# Altium schematic symbol library WCAP-FTBP.SchLib: 30 symbols
Pins are listed as number, name and electrical type; pins without a type are passive.

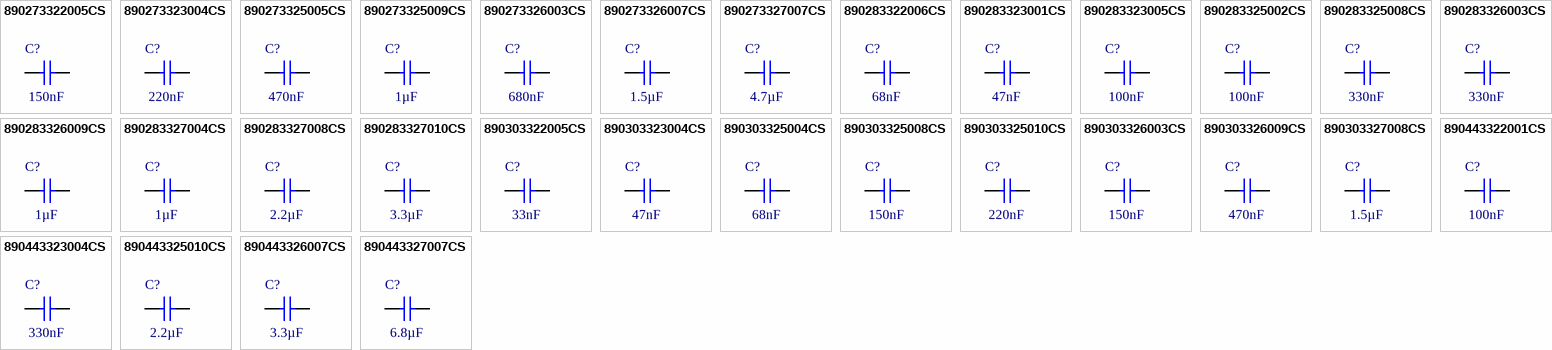
[diagram p0: symbols 890273322005CS to 890443327007CS]

## 890273322005CS
designator C?, comment 150nF
WCAP-FTBP Film Capacitor, L10.5 x W5 x H11mm. 150nF, 250V; Manufacturer Part Number: 890273322005CS; Manufacturer: Wurth Elektronik; Dissipation Factor @1kHz: 0.1%; Insulation Resistance: 30GΩ; Pitch: 7.5mm; Rate of Voltage Rise: 340V/µs; Category: Film Capacitors; Match Code: WCAP-FTBP; ComponentLink1Description: Website Link; ComponentLink1URL: https://www.we-online.com/redexpert/article/890273322005CS?ad; ComponentLink2Description: Datasheet Link; ComponentLink2URL: https://www.we-online.com/redexpert/spec/890273322005CS?ad; Mount: Through Hole; Min Operating Temperature: -40°C; Max Operating Temperature: 105°C; Packaging: Carton; Length: 10.5mm; Width: 5mm; Height: 11mm; Capacitance: 150nF; Rated Voltage (DC): 250V
footprint WCAP-FTBP_L10.5W5H11
simulation model 890273322005CS_150nF
pins: 1, 2

## 890273323004CS
designator C?, comment 220nF
WCAP-FTBP Film Capacitor, L13 x W6 x H12mm. 220nF, 250V; Manufacturer Part Number: 890273323004CS; Manufacturer: Wurth Elektronik; Dissipation Factor @1kHz: 0.1%; Insulation Resistance: 30GΩ; Pitch: 10mm; Rate of Voltage Rise: 250V/µs; Category: Film Capacitors; Match Code: WCAP-FTBP; ComponentLink1Description: Website Link; ComponentLink1URL: https://www.we-online.com/redexpert/article/890273323004CS?ad; ComponentLink2Description: Datasheet Link; ComponentLink2URL: https://www.we-online.com/redexpert/spec/890273323004CS?ad; Mount: Through Hole; Min Operating Temperature: -40°C; Max Operating Temperature: 105°C; Packaging: Carton; Length: 13mm; Width: 6mm; Height: 12mm; Capacitance: 220nF; Rated Voltage (DC): 250V
footprint WCAP-FTBP_L13W6H12
simulation model 890273323004CS_220nF
pins: 1, 2

## 890273325005CS
designator C?, comment 470nF
WCAP-FTBP Film Capacitor, L18 x W5 x H11mm. 470nF, 250V; Manufacturer Part Number: 890273325005CS; Manufacturer: Wurth Elektronik; Dissipation Factor @1kHz: 0.1%; Insulation Resistance: 21.28GΩ; Pitch: 15mm; Rate of Voltage Rise: 59V/µs; Category: Film Capacitors; Match Code: WCAP-FTBP; ComponentLink1Description: Website Link; ComponentLink1URL: https://www.we-online.com/redexpert/article/890273325005CS?ad; ComponentLink2Description: Datasheet Link; ComponentLink2URL: https://www.we-online.com/redexpert/spec/890273325005CS?ad; Mount: Through Hole; Min Operating Temperature: -40°C; Max Operating Temperature: 105°C; Packaging: Carton; Length: 18mm; Width: 5mm; Height: 11mm; Capacitance: 470nF; Rated Voltage (DC): 250V
footprint WCAP-FTBP_L18W5H11
simulation model 890273325005CS_470nF
pins: 1, 2

## 890273325009CS
designator C?, comment 1µF
WCAP-FTBP Film Capacitor, L18 x W7 x H13mm. 1µF, 250V; Manufacturer Part Number: 890273325009CS; Manufacturer: Wurth Elektronik; Dissipation Factor @1kHz: 0.1%; Insulation Resistance: 10GΩ; Pitch: 15mm; Rate of Voltage Rise: 85V/µs; Category: Film Capacitors; Match Code: WCAP-FTBP; ComponentLink1Description: Website Link; ComponentLink1URL: https://www.we-online.com/redexpert/article/890273325009CS?ad; ComponentLink2Description: Datasheet Link; ComponentLink2URL: https://www.we-online.com/redexpert/spec/890273325009CS?ad; Mount: Through Hole; Min Operating Temperature: -40°C; Max Operating Temperature: 105°C; Packaging: Carton; Length: 18mm; Width: 7mm; Height: 13mm; Capacitance: 1µF; Rated Voltage (DC): 250V
footprint WCAP-FTBP_L18W7H13
simulation model 890273325009CS_1uF
pins: 1, 2

## 890273326003CS
designator C?, comment 680nF
WCAP-FTBP Film Capacitor, L26 x W6 x H15mm. 680nF, 250V; Manufacturer Part Number: 890273326003CS; Manufacturer: Wurth Elektronik; Dissipation Factor @1kHz: 0.1%; Insulation Resistance: 14.71GΩ; Pitch: 22.5mm; Rate of Voltage Rise: 60V/µs; Category: Film Capacitors; Match Code: WCAP-FTBP; ComponentLink1Description: Website Link; ComponentLink1URL: https://www.we-online.com/redexpert/article/890273326003CS?ad; ComponentLink2Description: Datasheet Link; ComponentLink2URL: https://www.we-online.com/redexpert/spec/890273326003CS?ad; Mount: Through Hole; Min Operating Temperature: -40°C; Max Operating Temperature: 105°C; Packaging: Carton; Length: 26mm; Width: 6mm; Height: 15mm; Capacitance: 680nF; Rated Voltage (DC): 250V
footprint WCAP-FTBP_L26W6H15
simulation model 890273326003CS_680nF
pins: 1, 2

## 890273326007CS
designator C?, comment 1.5µF
WCAP-FTBP Film Capacitor, L26 x W7 x H16.5mm. 1.5µF, 250V; Manufacturer Part Number: 890273326007CS; Manufacturer: Wurth Elektronik; Dissipation Factor @1kHz: 0.1%; Insulation Resistance: 6.67GΩ; Pitch: 22.5mm; Rate of Voltage Rise: 61V/µs; Category: Film Capacitors; Match Code: WCAP-FTBP; ComponentLink1Description: Website Link; ComponentLink1URL: https://www.we-online.com/redexpert/article/890273326007CS?ad; ComponentLink2Description: Datasheet Link; ComponentLink2URL: https://www.we-online.com/redexpert/spec/890273326007CS?ad; Mount: Through Hole; Min Operating Temperature: -40°C; Max Operating Temperature: 105°C; Packaging: Carton; Length: 26mm; Width: 7mm; Height: 16.5mm; Capacitance: 1.5µF; Rated Voltage (DC): 250V
footprint WCAP-FTBP_L26W7H16.5
simulation model 890273326007CS_1.5uF
pins: 1, 2

## 890273327007CS
designator C?, comment 4.7µF
WCAP-FTBP Film Capacitor, L31 x W14 x H23.5mm. 4.7µF, 250V; Manufacturer Part Number: 890273327007CS; Manufacturer: Wurth Elektronik; Dissipation Factor @1kHz: 0.1%; Insulation Resistance: 2.13GΩ; Pitch: 27.5mm; Rate of Voltage Rise: 64V/µs; Category: Film Capacitors; Match Code: WCAP-FTBP; ComponentLink1Description: Website Link; ComponentLink1URL: https://www.we-online.com/redexpert/article/890273327007CS?ad; ComponentLink2Description: Datasheet Link; ComponentLink2URL: https://www.we-online.com/redexpert/spec/890273327007CS?ad; Mount: Through Hole; Min Operating Temperature: -40°C; Max Operating Temperature: 105°C; Packaging: Carton; Length: 31mm; Width: 14mm; Height: 23.5mm; Capacitance: 4.7µF; Rated Voltage (DC): 250V
footprint WCAP-FTBP_L31W14H23.5
simulation model 890273327007CS_4.7uF
pins: 1, 2

## 890283322006CS
designator C?, comment 68nF
WCAP-FTBP Film Capacitor, L10.5 x W6 x H12mm. 68nF, 400V; Manufacturer Part Number: 890283322006CS; Manufacturer: Wurth Elektronik; Dissipation Factor @1kHz: 0.1%; Insulation Resistance: 30GΩ; Pitch: 7.5mm; Rate of Voltage Rise: 610V/µs; Category: Film Capacitors; Match Code: WCAP-FTBP; ComponentLink1Description: Website Link; ComponentLink1URL: https://www.we-online.com/redexpert/article/890283322006CS?ad; ComponentLink2Description: Datasheet Link; ComponentLink2URL: https://www.we-online.com/redexpert/spec/890283322006CS?ad; Mount: Through Hole; Min Operating Temperature: -40°C; Max Operating Temperature: 105°C; Packaging: Carton; Length: 10.5mm; Width: 6mm; Height: 12mm; Capacitance: 68nF; Rated Voltage (DC): 400V
footprint WCAP-FTBP_L10.5W6H12
simulation model 890283322006CS_68nF
pins: 1, 2

## 890283323001CS
designator C?, comment 47nF
WCAP-FTBP Film Capacitor, L13 x W5 x H11mm. 47nF, 400V; Manufacturer Part Number: 890283323001CS; Manufacturer: Wurth Elektronik; Dissipation Factor @1kHz: 0.1%; Insulation Resistance: 30GΩ; Pitch: 10mm; Rate of Voltage Rise: 340V/µs; Category: Film Capacitors; Match Code: WCAP-FTBP; ComponentLink1Description: Website Link; ComponentLink1URL: https://www.we-online.com/redexpert/article/890283323001CS?ad; ComponentLink2Description: Datasheet Link; ComponentLink2URL: https://www.we-online.com/redexpert/spec/890283323001CS?ad; Mount: Through Hole; Min Operating Temperature: -40°C; Max Operating Temperature: 105°C; Packaging: Carton; Length: 13mm; Width: 5mm; Height: 11mm; Capacitance: 47nF; Rated Voltage (DC): 400V
footprint WCAP-FTBP_L13W5H11
simulation model 890283323001CS_47nF
pins: 1, 2

## 890283323005CS
designator C?, comment 100nF
WCAP-FTBP Film Capacitor, L13 x W5.5 x H11mm. 100nF, 400V; Manufacturer Part Number: 890283323005CS; Manufacturer: Wurth Elektronik; Dissipation Factor @1kHz: 0.1%; Insulation Resistance: 30GΩ; Pitch: 10mm; Rate of Voltage Rise: 300V/µs; Category: Film Capacitors; Match Code: WCAP-FTBP; ComponentLink1Description: Website Link; ComponentLink1URL: https://www.we-online.com/redexpert/article/890283323005CS?ad; ComponentLink2Description: Datasheet Link; ComponentLink2URL: https://www.we-online.com/redexpert/spec/890283323005CS?ad; Mount: Through Hole; Min Operating Temperature: -40°C; Max Operating Temperature: 105°C; Packaging: Carton; Length: 13mm; Width: 5.5mm; Height: 11mm; Capacitance: 100nF; Rated Voltage (DC): 400V
footprint WCAP-FTBP_L13W5.5H11
simulation model 890283323005CS_100nF
pins: 1, 2

## 890283325002CS
designator C?, comment 100nF
WCAP-FTBP Film Capacitor, L18 x W5 x H11mm. 100nF, 400V; Manufacturer Part Number: 890283325002CS; Manufacturer: Wurth Elektronik; Dissipation Factor @1kHz: 0.1%; Insulation Resistance: 30GΩ; Pitch: 15mm; Rate of Voltage Rise: 120V/µs; Category: Film Capacitors; Match Code: WCAP-FTBP; ComponentLink1Description: Website Link; ComponentLink1URL: https://www.we-online.com/redexpert/article/890283325002CS?ad; ComponentLink2Description: Datasheet Link; ComponentLink2URL: https://www.we-online.com/redexpert/spec/890283325002CS?ad; Mount: Through Hole; Min Operating Temperature: -40°C; Max Operating Temperature: 105°C; Packaging: Carton; Length: 18mm; Width: 5mm; Height: 11mm; Capacitance: 100nF; Rated Voltage (DC): 400V
footprint WCAP-FTBP_L18W5H11
simulation model 890283325002CS_100nF
pins: 1, 2

## 890283325008CS
designator C?, comment 330nF
WCAP-FTBP Film Capacitor, L18 x W7 x H13mm. 330nF, 400V; Manufacturer Part Number: 890283325008CS; Manufacturer: Wurth Elektronik; Dissipation Factor @1kHz: 0.1%; Insulation Resistance: 30GΩ; Pitch: 15mm; Rate of Voltage Rise: 140V/µs; Category: Film Capacitors; Match Code: WCAP-FTBP; ComponentLink1Description: Website Link; ComponentLink1URL: https://www.we-online.com/redexpert/article/890283325008CS?ad; ComponentLink2Description: Datasheet Link; ComponentLink2URL: https://www.we-online.com/redexpert/spec/890283325008CS?ad; Mount: Through Hole; Min Operating Temperature: -40°C; Max Operating Temperature: 105°C; Packaging: Carton; Length: 18mm; Width: 7mm; Height: 13mm; Capacitance: 330nF; Rated Voltage (DC): 400V
footprint WCAP-FTBP_L18W7H13
simulation model 890283325008CS_330nF
pins: 1, 2

## 890283326003CS
designator C?, comment 330nF
WCAP-FTBP Film Capacitor, L26 x W6 x H15mm. 330nF, 400V; Manufacturer Part Number: 890283326003CS; Manufacturer: Wurth Elektronik; Dissipation Factor @1kHz: 0.1%; Insulation Resistance: 30GΩ; Pitch: 22.5mm; Rate of Voltage Rise: 97V/µs; Category: Film Capacitors; Match Code: WCAP-FTBP; ComponentLink1Description: Website Link; ComponentLink1URL: https://www.we-online.com/redexpert/article/890283326003CS?ad; ComponentLink2Description: Datasheet Link; ComponentLink2URL: https://www.we-online.com/redexpert/spec/890283326003CS?ad; Mount: Through Hole; Min Operating Temperature: -40°C; Max Operating Temperature: 105°C; Packaging: Carton; Length: 26mm; Width: 6mm; Height: 15mm; Capacitance: 330nF; Rated Voltage (DC): 400V
footprint WCAP-FTBP_L26W6H15
simulation model 890283326003CS_330nF
pins: 1, 2

## 890283326009CS
designator C?, comment 1µF
WCAP-FTBP Film Capacitor, L26 x W8.5 x H17mm. 1µF, 400V; Manufacturer Part Number: 890283326009CS; Manufacturer: Wurth Elektronik; Dissipation Factor @1kHz: 0.1%; Insulation Resistance: 10GΩ; Pitch: 22.5mm; Rate of Voltage Rise: 95V/µs; Category: Film Capacitors; Match Code: WCAP-FTBP; ComponentLink1Description: Website Link; ComponentLink1URL: https://www.we-online.com/redexpert/article/890283326009CS?ad; ComponentLink2Description: Datasheet Link; ComponentLink2URL: https://www.we-online.com/redexpert/spec/890283326009CS?ad; Mount: Through Hole; Min Operating Temperature: -40°C; Max Operating Temperature: 105°C; Packaging: Carton; Length: 26mm; Width: 8.5mm; Height: 17mm; Capacitance: 1µF; Rated Voltage (DC): 400V
footprint WCAP-FTBP_L26W8.5H17
simulation model 890283326009CS_1uF
pins: 1, 2

## 890283327004CS
designator C?, comment 1µF
WCAP-FTBP Film Capacitor, L31 x W10 x H19mm. 1µF, 400V; Manufacturer Part Number: 890283327004CS; Manufacturer: Wurth Elektronik; Dissipation Factor @1kHz: 0.1%; Insulation Resistance: 10GΩ; Pitch: 27.5mm; Rate of Voltage Rise: 90V/µs; Category: Film Capacitors; Match Code: WCAP-FTBP; ComponentLink1Description: Website Link; ComponentLink1URL: https://www.we-online.com/redexpert/article/890283327004CS?ad; ComponentLink2Description: Datasheet Link; ComponentLink2URL: https://www.we-online.com/redexpert/spec/890283327004CS?ad; Mount: Through Hole; Min Operating Temperature: -40°C; Max Operating Temperature: 105°C; Packaging: Carton; Length: 31mm; Width: 10mm; Height: 19mm; Capacitance: 1µF; Rated Voltage (DC): 400V
footprint WCAP-FTBP_L31W10H19
simulation model 890283327004CS_1uF
pins: 1, 2

## 890283327008CS
designator C?, comment 2.2µF
WCAP-FTBP Film Capacitor, L31 x W15 x H24.5mm. 2.2µF, 400V; Manufacturer Part Number: 890283327008CS; Manufacturer: Wurth Elektronik; Dissipation Factor @1kHz: 0.1%; Insulation Resistance: 4.55GΩ; Pitch: 27.5mm; Rate of Voltage Rise: 98V/µs; Category: Film Capacitors; Match Code: WCAP-FTBP; ComponentLink1Description: Website Link; ComponentLink1URL: https://www.we-online.com/redexpert/article/890283327008CS?ad; ComponentLink2Description: Datasheet Link; ComponentLink2URL: https://www.we-online.com/redexpert/spec/890283327008CS?ad; Mount: Through Hole; Min Operating Temperature: -40°C; Max Operating Temperature: 105°C; Packaging: Carton; Length: 31mm; Width: 15mm; Height: 24.5mm; Capacitance: 2.2µF; Rated Voltage (DC): 400V
footprint WCAP-FTBP_L31W15H24.5
simulation model 890283327008CS_2.2uF
pins: 1, 2

## 890283327010CS
designator C?, comment 3.3µF
WCAP-FTBP Film Capacitor, L31 x W18 x H26mm. 3.3µF, 400V; Manufacturer Part Number: 890283327010CS; Manufacturer: Wurth Elektronik; Dissipation Factor @1kHz: 0.1%; Insulation Resistance: 3.03GΩ; Pitch: 27.5mm; Rate of Voltage Rise: 100V/µs; Category: Film Capacitors; Match Code: WCAP-FTBP; ComponentLink1Description: Website Link; ComponentLink1URL: https://www.we-online.com/redexpert/article/890283327010CS?ad; ComponentLink2Description: Datasheet Link; ComponentLink2URL: https://www.we-online.com/redexpert/spec/890283327010CS?ad; Mount: Through Hole; Min Operating Temperature: -40°C; Max Operating Temperature: 105°C; Packaging: Carton; Length: 31mm; Width: 18mm; Height: 26mm; Capacitance: 3.3µF; Rated Voltage (DC): 400V
footprint WCAP-FTBP_L31W18H26
simulation model 890283327010CS_3.3uF
pins: 1, 2

## 890303322005CS
designator C?, comment 33nF
WCAP-FTBP Film Capacitor, L10.5 x W5 x H11mm. 33nF, 630V; Manufacturer Part Number: 890303322005CS; Manufacturer: Wurth Elektronik; Dissipation Factor @1kHz: 0.1%; Insulation Resistance: 30GΩ; Pitch: 7.5mm; Rate of Voltage Rise: 700V/µs; Category: Film Capacitors; Match Code: WCAP-FTBP; ComponentLink1Description: Website Link; ComponentLink1URL: https://www.we-online.com/redexpert/article/890303322005CS?ad; ComponentLink2Description: Datasheet Link; ComponentLink2URL: https://www.we-online.com/redexpert/spec/890303322005CS?ad; Mount: Through Hole; Min Operating Temperature: -40°C; Max Operating Temperature: 105°C; Packaging: Carton; Length: 10.5mm; Width: 5mm; Height: 11mm; Capacitance: 33nF; Rated Voltage (DC): 630V
footprint WCAP-FTBP_L10.5W5H11
simulation model 890303322005CS_33nF
pins: 1, 2

## 890303323004CS
designator C?, comment 47nF
WCAP-FTBP Film Capacitor, L13 x W5.5 x H11mm. 47nF, 630V; Manufacturer Part Number: 890303323004CS; Manufacturer: Wurth Elektronik; Dissipation Factor @1kHz: 0.1%; Insulation Resistance: 30GΩ; Pitch: 10mm; Rate of Voltage Rise: 430V/µs; Category: Film Capacitors; Match Code: WCAP-FTBP; ComponentLink1Description: Website Link; ComponentLink1URL: https://www.we-online.com/redexpert/article/890303323004CS?ad; ComponentLink2Description: Datasheet Link; ComponentLink2URL: https://www.we-online.com/redexpert/spec/890303323004CS?ad; Mount: Through Hole; Min Operating Temperature: -40°C; Max Operating Temperature: 105°C; Packaging: Carton; Length: 13mm; Width: 5.5mm; Height: 11mm; Capacitance: 47nF; Rated Voltage (DC): 630V
footprint WCAP-FTBP_L13W5.5H11
simulation model 890303323004CS_47nF
pins: 1, 2

## 890303325004CS
designator C?, comment 68nF
WCAP-FTBP Film Capacitor, L18 x W6 x H12mm. 68nF, 630V; Manufacturer Part Number: 890303325004CS; Manufacturer: Wurth Elektronik; Dissipation Factor @1kHz: 0.1%; Insulation Resistance: 30GΩ; Pitch: 15mm; Rate of Voltage Rise: 240V/µs; Category: Film Capacitors; Match Code: WCAP-FTBP; ComponentLink1Description: Website Link; ComponentLink1URL: https://www.we-online.com/redexpert/article/890303325004CS?ad; ComponentLink2Description: Datasheet Link; ComponentLink2URL: https://www.we-online.com/redexpert/spec/890303325004CS?ad; Mount: Through Hole; Min Operating Temperature: -40°C; Max Operating Temperature: 105°C; Packaging: Carton; Length: 18mm; Width: 6mm; Height: 12mm; Capacitance: 68nF; Rated Voltage (DC): 630V
footprint WCAP-FTBP_L18W6H12
simulation model 890303325004CS_68nF
pins: 1, 2

## 890303325008CS
designator C?, comment 150nF
WCAP-FTBP Film Capacitor, L18 x W7 x H13mm. 150nF, 630V; Manufacturer Part Number: 890303325008CS; Manufacturer: Wurth Elektronik; Dissipation Factor @1kHz: 0.1%; Insulation Resistance: 30GΩ; Pitch: 15mm; Rate of Voltage Rise: 200V/µs; Category: Film Capacitors; Match Code: WCAP-FTBP; ComponentLink1Description: Website Link; ComponentLink1URL: https://www.we-online.com/redexpert/article/890303325008CS?ad; ComponentLink2Description: Datasheet Link; ComponentLink2URL: https://www.we-online.com/redexpert/spec/890303325008CS?ad; Mount: Through Hole; Min Operating Temperature: -40°C; Max Operating Temperature: 105°C; Packaging: Carton; Length: 18mm; Width: 7mm; Height: 13mm; Capacitance: 150nF; Rated Voltage (DC): 630V
footprint WCAP-FTBP_L18W7H13
simulation model 890303325008CS_150nF
pins: 1, 2

## 890303325010CS
designator C?, comment 220nF
WCAP-FTBP Film Capacitor, L18 x W8 x H14mm. 220nF, 630V; Manufacturer Part Number: 890303325010CS; Manufacturer: Wurth Elektronik; Dissipation Factor @1kHz: 0.1%; Insulation Resistance: 30GΩ; Pitch: 15mm; Rate of Voltage Rise: 220V/µs; Category: Film Capacitors; Match Code: WCAP-FTBP; ComponentLink1Description: Website Link; ComponentLink1URL: https://www.we-online.com/redexpert/article/890303325010CS?ad; ComponentLink2Description: Datasheet Link; ComponentLink2URL: https://www.we-online.com/redexpert/spec/890303325010CS?ad; Mount: Through Hole; Min Operating Temperature: -40°C; Max Operating Temperature: 105°C; Packaging: Carton; Length: 18mm; Width: 8mm; Height: 14mm; Capacitance: 220nF; Rated Voltage (DC): 630V
footprint WCAP-FTBP_L18W8H14
simulation model 890303325010CS_220nF
pins: 1, 2

## 890303326003CS
designator C?, comment 150nF
WCAP-FTBP Film Capacitor, L26 x W6 x H15mm. 150nF, 630V; Manufacturer Part Number: 890303326003CS; Manufacturer: Wurth Elektronik; Dissipation Factor @1kHz: 0.1%; Insulation Resistance: 30GΩ; Pitch: 22.5mm; Rate of Voltage Rise: 120V/µs; Category: Film Capacitors; Match Code: WCAP-FTBP; ComponentLink1Description: Website Link; ComponentLink1URL: https://www.we-online.com/redexpert/article/890303326003CS?ad; ComponentLink2Description: Datasheet Link; ComponentLink2URL: https://www.we-online.com/redexpert/spec/890303326003CS?ad; Mount: Through Hole; Min Operating Temperature: -40°C; Max Operating Temperature: 105°C; Packaging: Carton; Length: 26mm; Width: 6mm; Height: 15mm; Capacitance: 150nF; Rated Voltage (DC): 630V
footprint WCAP-FTBP_L26W6H15
simulation model 890303326003CS_150nF
pins: 1, 2

## 890303326009CS
designator C?, comment 470nF
WCAP-FTBP Film Capacitor, L26 x W9 x H18mm. 470nF, 630V; Manufacturer Part Number: 890303326009CS; Manufacturer: Wurth Elektronik; Dissipation Factor @1kHz: 0.1%; Insulation Resistance: 21.28GΩ; Pitch: 22.5mm; Rate of Voltage Rise: 130V/µs; Category: Film Capacitors; Match Code: WCAP-FTBP; ComponentLink1Description: Website Link; ComponentLink1URL: https://www.we-online.com/redexpert/article/890303326009CS?ad; ComponentLink2Description: Datasheet Link; ComponentLink2URL: https://www.we-online.com/redexpert/spec/890303326009CS?ad; Mount: Through Hole; Min Operating Temperature: -40°C; Max Operating Temperature: 105°C; Packaging: Carton; Length: 26mm; Width: 9mm; Height: 18mm; Capacitance: 470nF; Rated Voltage (DC): 630V
footprint WCAP-FTBP_L26W9H18
simulation model 890303326009CS_470nF
pins: 1, 2

## 890303327008CS
designator C?, comment 1.5µF
WCAP-FTBP Film Capacitor, L31 x W16 x H25.5mm. 1.5µF, 630V; Manufacturer Part Number: 890303327008CS; Manufacturer: Wurth Elektronik; Dissipation Factor @1kHz: 0.1%; Insulation Resistance: 6.67GΩ; Pitch: 27.5mm; Rate of Voltage Rise: 130V/µs; Category: Film Capacitors; Match Code: WCAP-FTBP; ComponentLink1Description: Website Link; ComponentLink1URL: https://www.we-online.com/redexpert/article/890303327008CS?ad; ComponentLink2Description: Datasheet Link; ComponentLink2URL: https://www.we-online.com/redexpert/spec/890303327008CS?ad; Mount: Through Hole; Min Operating Temperature: -40°C; Max Operating Temperature: 105°C; Packaging: Carton; Length: 31mm; Width: 16mm; Height: 25.5mm; Capacitance: 1.5µF; Rated Voltage (DC): 630V
footprint WCAP-FTBP_L31W16H25.5
simulation model 890303327008CS_1.5uF
pins: 1, 2

## 890443322001CS
designator C?, comment 100nF
WCAP-FTBP Film Capacitor, L10.5 x W5 x H11mm. 100nF, 160V; Manufacturer Part Number: 890443322001CS; Manufacturer: Wurth Elektronik; Dissipation Factor @1kHz: 0.1%; Insulation Resistance: 30GΩ; Pitch: 7.5mm; Rate of Voltage Rise: 300V/µs; Category: Film Capacitors; Match Code: WCAP-FTBP; ComponentLink1Description: Website Link; ComponentLink1URL: https://www.we-online.com/redexpert/article/890443322001CS?ad; ComponentLink2Description: Datasheet Link; ComponentLink2URL: https://www.we-online.com/redexpert/spec/890443322001CS?ad; Mount: Through Hole; Min Operating Temperature: -40°C; Max Operating Temperature: 105°C; Packaging: Carton; Length: 10.5mm; Width: 5mm; Height: 11mm; Capacitance: 100nF; Rated Voltage (DC): 160V
footprint WCAP-FTBP_L10.5W5H11
simulation model 890443322001CS_100nF
pins: 1, 2

## 890443323004CS
designator C?, comment 330nF
WCAP-FTBP Film Capacitor, L13 x W6 x H12mm. 330nF, 160V; Manufacturer Part Number: 890443323004CS; Manufacturer: Wurth Elektronik; Dissipation Factor @1kHz: 0.1%; Insulation Resistance: 30GΩ; Pitch: 10mm; Rate of Voltage Rise: 180V/µs; Category: Film Capacitors; Match Code: WCAP-FTBP; ComponentLink1Description: Website Link; ComponentLink1URL: https://www.we-online.com/redexpert/article/890443323004CS?ad; ComponentLink2Description: Datasheet Link; ComponentLink2URL: https://www.we-online.com/redexpert/spec/890443323004CS?ad; Mount: Through Hole; Min Operating Temperature: -40°C; Max Operating Temperature: 105°C; Packaging: Carton; Length: 13mm; Width: 6mm; Height: 12mm; Capacitance: 330nF; Rated Voltage (DC): 160V
footprint WCAP-FTBP_L13W6H12
simulation model 890443323004CS_330nF
pins: 1, 2

## 890443325010CS
designator C?, comment 2.2µF
WCAP-FTBP Film Capacitor, L18 x W10 x H16.5mm. 2.2µF, 160V; Manufacturer Part Number: 890443325010CS; Manufacturer: Wurth Elektronik; Dissipation Factor @1kHz: 0.1%; Insulation Resistance: 4.55GΩ; Pitch: 15mm; Rate of Voltage Rise: 98V/µs; Category: Film Capacitors; Match Code: WCAP-FTBP; ComponentLink1Description: Website Link; ComponentLink1URL: https://www.we-online.com/redexpert/article/890443325010CS?ad; ComponentLink2Description: Datasheet Link; ComponentLink2URL: https://www.we-online.com/redexpert/spec/890443325010CS?ad; Mount: Through Hole; Min Operating Temperature: -40°C; Max Operating Temperature: 105°C; Packaging: Carton; Length: 18mm; Width: 10mm; Height: 16.5mm; Capacitance: 2.2µF; Rated Voltage (DC): 160V
footprint WCAP-FTBP_L18W10H16.5
simulation model 890443325010CS_2.2uF
pins: 1, 2

## 890443326007CS
designator C?, comment 3.3µF
WCAP-FTBP Film Capacitor, L26 x W9 x H18mm. 3.3µF, 160V; Manufacturer Part Number: 890443326007CS; Manufacturer: Wurth Elektronik; Dissipation Factor @1kHz: 0.1%; Insulation Resistance: 3.03GΩ; Pitch: 22.5mm; Rate of Voltage Rise: 57V/µs; Category: Film Capacitors; Match Code: WCAP-FTBP; ComponentLink1Description: Website Link; ComponentLink1URL: https://www.we-online.com/redexpert/article/890443326007CS?ad; ComponentLink2Description: Datasheet Link; ComponentLink2URL: https://www.we-online.com/redexpert/spec/890443326007CS?ad; Mount: Through Hole; Min Operating Temperature: -40°C; Max Operating Temperature: 105°C; Packaging: Carton; Length: 26mm; Width: 9mm; Height: 18mm; Capacitance: 3.3µF; Rated Voltage (DC): 160V
footprint WCAP-FTBP_L26W9H18
simulation model 890443326007CS_3.3uF
pins: 1, 2

## 890443327007CS
designator C?, comment 6.8µF
WCAP-FTBP Film Capacitor, L31 x W13 x H22mm. 6.8µF, 160V; Manufacturer Part Number: 890443327007CS; Manufacturer: Wurth Elektronik; Dissipation Factor @1kHz: 0.1%; Insulation Resistance: 1.47GΩ; Pitch: 27.5mm; Rate of Voltage Rise: 46V/µs; Category: Film Capacitors; Match Code: WCAP-FTBP; ComponentLink1Description: Website Link; ComponentLink1URL: https://www.we-online.com/redexpert/article/890443327007CS?ad; ComponentLink2Description: Datasheet Link; ComponentLink2URL: https://www.we-online.com/redexpert/spec/890443327007CS?ad; Mount: Through Hole; Min Operating Temperature: -40°C; Max Operating Temperature: 105°C; Packaging: Carton; Length: 31mm; Width: 13mm; Height: 22mm; Capacitance: 6.8µF; Rated Voltage (DC): 160V
footprint WCAP-FTBP_L31W13H22
simulation model 890443327007CS_6.8uF
pins: 1, 2